# EAGLE library part DAC813P (library burr-brown)
12-Bit, DAC
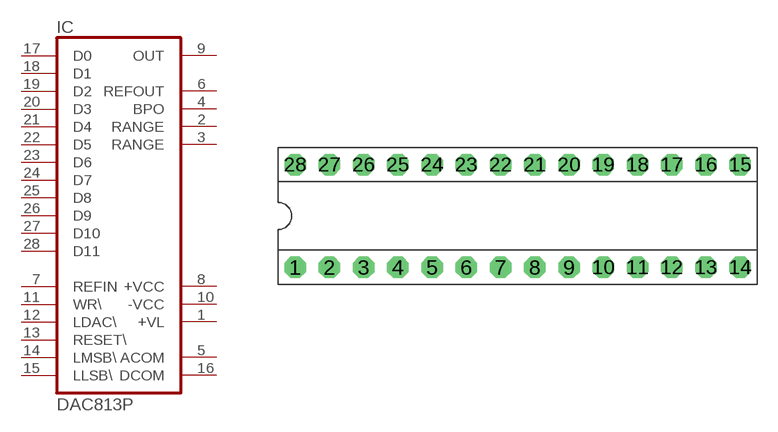
[diagram p192: symbol with the pads of DIP-28/3; footprint DIP-28/3]

Designator prefix IC

## DAC813P  [DIP-28/3]
1  +VL  pwr
2  RANGE  pas
3  RANGE  pas
4  BPO  pas
5  ACOM  pwr
6  REFOUT  out
7  REFIN  in
8  +VCC  pwr
9  OUT  out
10  -VCC  pwr
11  WR\  in
12  LDAC\  in
13  RESET\  in
14  LMSB\  in
15  LLSB\  in
16  DCOM  pwr
17  D0  in
18  D1  in
19  D2  in
20  D3  in
21  D4  in
22  D5  in
23  D6  in
24  D7  in
25  D8  in
26  D9  in
27  D10  in
28  D11  in

## Footprint DIP-28/3 (pad centres in mm)
drill 0.813 pad 1.6 octagon: 1 -16.51,-3.81; 2 -13.97,-3.81; 3 -11.43,-3.81; 4 -8.89,-3.81; 5 -6.35,-3.81; 6 -3.81,-3.81; 7 -1.27,-3.81; 8 1.27,-3.81; 9 3.81,-3.81; 10 6.35,-3.81; 11 8.89,-3.81; 12 11.43,-3.81; 13 13.97,-3.81; 14 16.51,-3.81; 15 16.51,3.81; 16 13.97,3.81; 17 11.43,3.81; 18 8.89,3.81; 19 6.35,3.81; 20 3.81,3.81; 21 1.27,3.81; 22 -1.27,3.81; 23 -3.81,3.81; 24 -6.35,3.81; 25 -8.89,3.81; 26 -11.43,3.81; 27 -13.97,3.81; 28 -16.51,3.81